# Altium integrated library Xtals.IntLib: 3 symbols
Pins are listed as number, name and electrical type; pins without a type are passive.

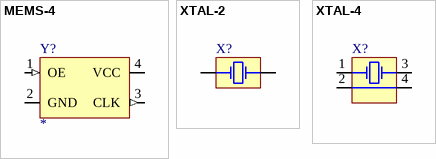
[diagram p0: symbols MEMS-4 to XTAL-4]

## MEMS-4
designator Y?
MEMS Oscillator; Populated: Yes; Value: *; ROHS: Yes
footprint OSC4_[2520] (OSC4_[2520]_61X65LS_79X98SMD)
pins: 1 OE (in), 2 GND (power), 3 CLK (out), 4 VCC (power)

## XTAL-2
designator X?
Generic Crystal 2SMD; Populated: Yes; ROHS: Yes
footprint CSM-7X-DU
footprint FC-12M
footprint HC18U-V
footprint HC33U-V
footprint HC49-SMD-A
footprint HC49-SMD-B
footprint HC49-SMD-c
footprint HC49-SMD-D
footprint HC49/S
footprint HC49U70
footprint HC49U-H
footprint HC49U-V
footprint HC49UP
footprint MC-405
footprint SM49
footprint TC26H
footprint TC26V
footprint TC38H
footprint XT_2012_2
footprint XT_3215_2
footprint XT_3225_2
footprint XT_5032_2
footprint ABS07
footprint ABS05 (0.063" L x 0.039" A (1.60 mm x 1.00 mm))
footprint ABS10
footprint 2-SMD(3.2x1.5)
pins: 1 OSC1, 2 COM

## XTAL-4
designator X?
Generic Crystal 4SMD; Populated: Yes; ROHS: Yes
footprint 3.2X2.5MM
footprint 5X3.2MM
footprint 7X5MM
footprint ABS25
footprint ASE
footprint ASF
footprint CTS406
footprint FA-20H
footprint FA-128
footprint MC-206
footprint MC-306
footprint XT_2016_4
footprint XT_2520_4
footprint XT_3225_4
footprint XT_5032_4
footprint XT_8038_4
footprint ABS25-32.768KHZ-T; pin to pad 3>4 4>3
footprint ABM10
footprint ABM11
footprint XT_1612_4
footprint 4-SMD(2x1.6)
footprint 4-SMD(1.6x1.2)
pins: 1 OSC1, 2 COM, 3 OSC2, 4 COM